# EAGLE library part MOSFETBOARD (library mosfet board)
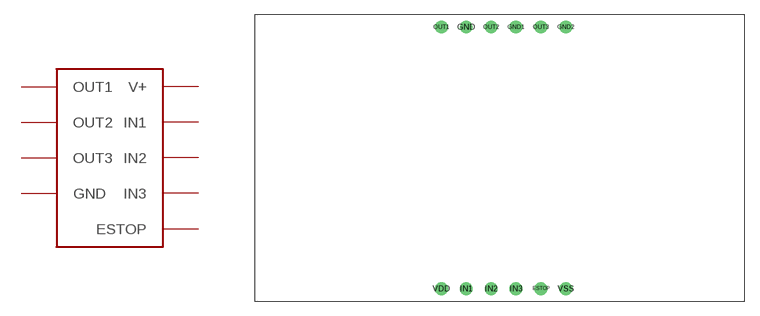
[diagram p0: symbol with the pads of MOSFET-BOARD; footprint MOSFET-BOARD]

Designator prefix -

## MOSFETBOARD  [MOSFET-BOARD]
ESTOP  ESTOP
GND  GND
GND1  GND
GND2  GND
IN1  IN1
IN2  IN2
IN3  IN3
OUT1  OUT1
OUT2  OUT2
OUT3  OUT3
VDD  V+
VSS  GND

## Footprint MOSFET-BOARD (pad centres in mm)
drill 0.8: ESTOP 29.21,1.27; GND 21.59,27.94; GND1 26.67,27.94; GND2 31.75,27.94; IN1 21.59,1.27; IN2 24.13,1.27; IN3 26.67,1.27; OUT1 19.05,27.94; OUT2 24.13,27.94; OUT3 29.21,27.94; VDD 19.05,1.27; VSS 31.75,1.27